# Altium schematic symbol library Terminal.SchLib: 3 symbols
Pins are listed as number, name and electrical type; pins without a type are passive.

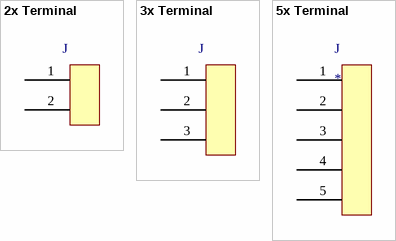
[diagram p0: symbols 2x Terminal to 5x Terminal]

## 2x Terminal
designator J  (value not drawn)
Manufacturer: WEIDMULLER; Manufacturer Code: PM5.08/2/90 BLK; Value: 2x Terminal; Farnell Code: 1131855; Unit Price: 0,55 €
footprint 2x Terminal (Footprint not found)
footprint 2x Terminal mini
pins: 1, 2

## 3x Terminal
designator J  (value not drawn)
Manufacturer: WEIDMULLER; Manufacturer Code: PM5.08/3/90 BLK; Value: 3x Terminal; Farnell Code: 1131856; Unit Price: 0,76 €
footprint 3x Terminal
pins: 1, 2, 3

## 5x Terminal
designator J
footprint 5x Terminal (Footprint not found)
pins: 1, 2, 3, 4, 5